# Altium schematic symbol library SRP3020TA-1R0M.SchLib: 1 symbol
Pins are listed as number, name and electrical type; pins without a type are passive.

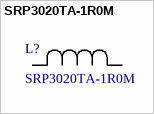
[diagram p0: symbol SRP3020TA-1R0M]

## SRP3020TA-1R0M
designator L?
No Description Available; Manufacturer_Name: Bourns Electronics; Copyright: Copyright (C) 2025 Ultra Librarian. All rights reserved.; Manufacturer_Part_Number: SRP3020TA-1R0M
footprint IND_SRP3020TA-1R0M_BRN
pins: 1, 2